# Altium footprint library SMD-PUSH-4Pins.PcbLib: 1 footprints
Each footprint in its own frame and in the unit in brackets; x right, y up, seen from the top. Pads: shape width x height; smd on the part's side, far side on the other; paste and mask are expansions set on the pad; w line width, h text height; cw(c..) or ccw(c..) is an arc to the next point about the centre after c.
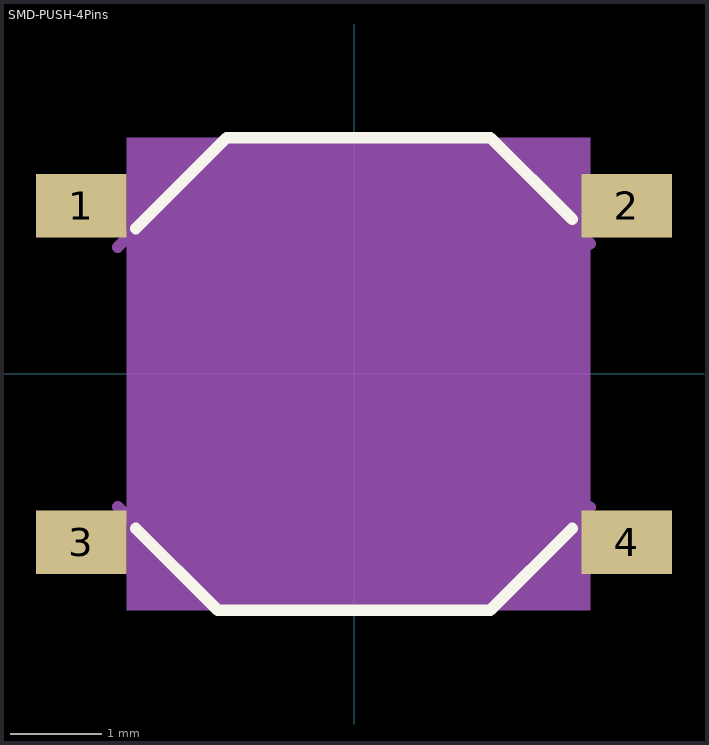
[diagram p0: the footprint, top view; thin cyan lines are the x and y axes]

## SMD-PUSH-4Pins [mm]
pads (4):
  rect 1x0.7 smd: 1(-3,1.85) 2(3,1.85) 3(-3,-1.85) 4(3,-1.85)
Top Overlay:
  lines w0.127: -2.4,-1.7 -1.5,-2.6 -1.46,-2.6 -1.1,-2.6 1.5,-2.6 2.4,-1.7 ; -2.4,1.6 -1.4,2.6 1.5,2.6 2.4,1.7
Mechanical 13:
  lines w0.127: -2.6,-1.46 -1.46,-2.6 ; -2.6,1.396 -1.396,2.6 ; 1.434,2.6 2.6,1.434 ; 1.469,-2.6 2.6,-1.469
Mechanical 15:
  region: 2.6,-2.601 -2.501,-2.601 -2.501,2.6 2.6,2.6
3D body "skqgake010.stp": height 1.5, standoff 0, extent -3.2,-2.6 3.2,2.6